# Altium schematic symbol library 35RASMT4BHNTRX.SchLib: 1 symbol
Pins are listed as number, name and electrical type; pins without a type are passive.

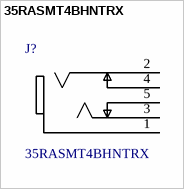
[diagram p0: symbol 35RASMT4BHNTRX]

## 35RASMT4BHNTRX
designator J?
Conn 3.5MM Stereo Jack F 3 POS Solder RA SMD 5 Terminal 1 Port T/R; MF: Switchcraft; Package: None; MP: 35RASMT4BHNTRX; SnapEDA_Link: https://www.snapeda.com/parts/35RASMT4BHNTRX/Switchcraft%20Inc./view-part/?ref=snap; Availability: Unavailable; Price: None; Value: *
footprint SWITCHCRAFT_35RASMT4BHNTRX
pins: 1, 2, 3, 4, 5